# EAGLE library part MPT9 (library con-phoenix-254)
PHOENIX CONNECTOR
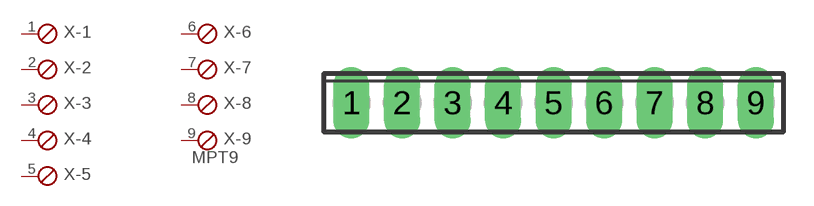
[diagram p0: symbol with the pads of 9POL254; footprint 9POL254]

Designator prefix X; gates -1=SKB -2=SKB -3=SKB -4=SKB -5=SKB -6=SKB -7=SKB -8=SKB -9=SKBV

## MPT9 (OC_FARNELL: unknown; OC_NEWARK: unknown)  [9POL254]
1  -1:1  pas
2  -2:1  pas
3  -3:1  pas
4  -4:1  pas
5  -5:1  pas
6  -6:1  pas
7  -7:1  pas
8  -8:1  pas
9  -9:1  pas

## Footprint 9POL254 (pad centres in mm)
PHOENIX CONNECTOR
drill 1.2 long: 1 -10.16,0; 2 -7.62,0; 3 -5.08,0; 4 -2.54,0; 5 0,0; 6 2.54,0; 7 5.08,0; 8 7.62,0; 9 10.16,0